# Altium schematic symbol library Schematic Library.SchLib: 24 symbols
Pins are listed as number, name and electrical type; pins without a type are passive.

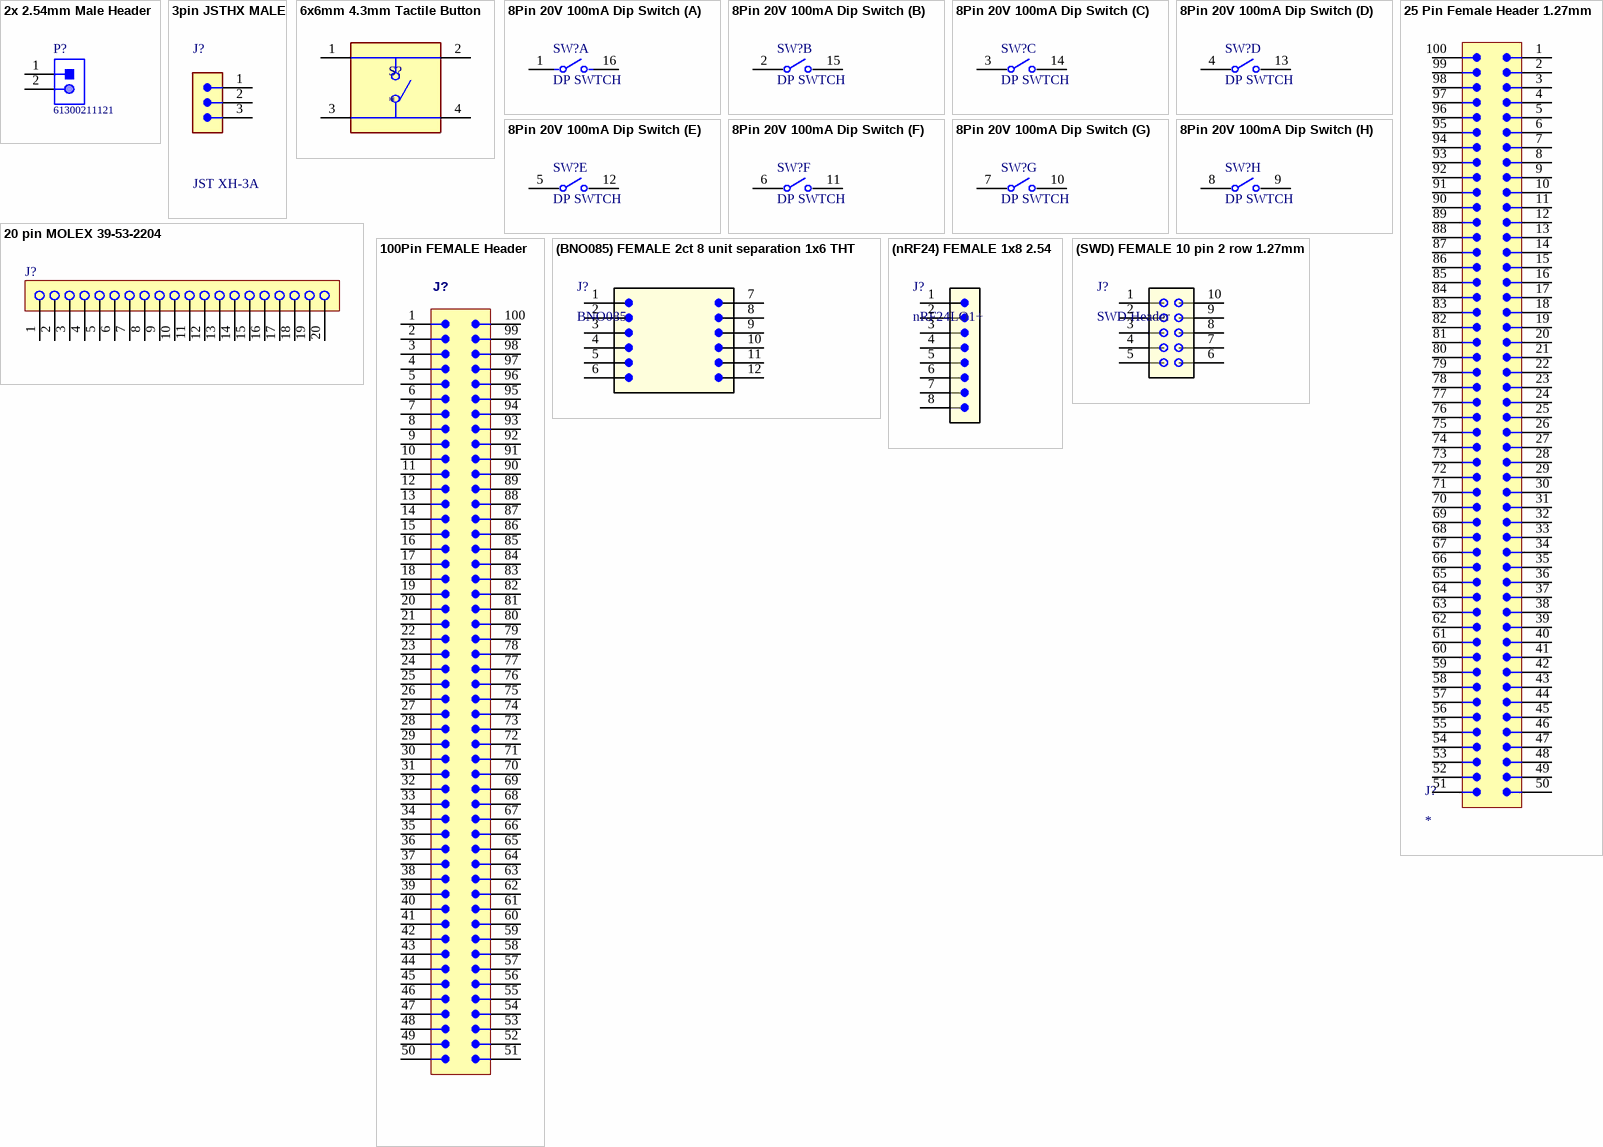
[diagram p0: symbols 2x 2.54mm Male Header to (SWD) FEMALE 10 pin 2 row 1.27mm]

## 2x 2.54mm Male Header
designator P?, comment 61300211121
THT Vertical Pin Header WR-PHD, Pitch 2.54 mm, Single Row, 2 pins; Manufacturer: Wurth Elektronik; Rated Current: 3A; Gender: Male; Withstanding Voltage: 500VAC; Working Voltage: 250VAC; Pitch: 2.54mm; Contact Resistance: 20mOhm; Pin Number: 2; Mounting Technology: THT; Orientation: Vertical; Operating Temperature: -40to105degC; Packaging: Bag; Publisher: WurthElektronik; Datasheet URL: https://katalog.we-online.de/em/datasheet/6130xx11121.pdf; Manufacturer URL: http://www.we-online.de; Row Number: Single; Package Reference: 61300211121; Part Number: 61300211121; Digi-Key_Part_Number_1: 732-5315-ND
footprint 2x 2.54mm MALE header pin (Pin Header, pitch 2.54 mm, THT, Vertical, single row, 2p)
pins: 1, 2

## 3pin JSTHX MALE
designator J?, comment JST XH-3A
CONN HEADER VERT 3POS 2.5MM; Max Current Rating: 3A; Gender: Male; Max Voltage Rating (AC): 250V; Connector Type: Male Pin; Pitch: 0.098inch; Number of Positions: 3; Contact Resistance: 20mR; Termination: Press-Fit; Housing Color: White; Housing Material: Polyamide; Orientation: Straight; Contact Material: Brass; Contact Type: Male Pin; Color: Natural; Packaging: Bulk; Lead Free: Lead Free; Depth: 5.75mm; Number of Rows: 1; Contact Plating: Tin; Length: 9.9mm; Max Operating Temperature: 85°C; Series: XH; Min Operating Temperature: -25°C; Fastening Type: Detent; Mount: Through Hole; Digi-Key_Part_Number_1: 455-2231-ND
footprint FP-B3B-XH-AM_LF_SN-MFG
pins: 1, 2, 3

## 6x6mm 4.3mm Tactile Button
designator S?
6 x 6 mm, 4.3 mm Actuator Height, 160 gf, Black, Long Crimped, Through Hole, SPST, Tactile Switch; MF: CUI Devices; MP: TS02-66-43-BK-160-LCR-D; SnapEDA_Link: https://www.snapeda.com/parts/TS02-66-43-BK-160-LCR-D/CUI+Devices/view-part/?ref=snap; Check_prices: https://www.snapeda.com/parts/TS02-66-43-BK-160-LCR-D/CUI+Devices/view-part/?ref=eda; Availability: In Stock; Value: *; Package: None; Purchase-URL: https://pricing.snapeda.com/search/part/TS02-66-43-BK-160-LCR-D/?ref=eda; Price: None; CUI_purchase_URL: https://www.cuidevices.com/product/switches/tactile-switches/ts02-series?utm_source=snapeda.com&utm_medium=referral&utm_campaign=snapedaBOM; Digi-Key_Part_Number_1: 2223-TS02-66-43-BK-160-LCR-D-ND
footprint BUTTON 6x6x4.3 TACTILE SWITCH
pins: 1, 2, 3, 4

## 8Pin 20V 100mA Dip Switch
designator SW?, comment DP SWTCH
SWITCH SLIDE DIP SPST 100MA 20V; Washable: Yes; Pitch: 0.1inch; Electrical Life: 2000Cycles; Number of Positions: 8; Actuator Type: Slide (Standard); Lead Free: Lead Free; Radiation Hardening: No; Packaging: Tape and Reel; Contact Plating: Gold; Throw Configuration: SPST; Depth: 9.91mm; Min Operating Temperature: -55°C; Termination: Gull Wing; Max Voltage Rating (DC): 20V; Mount: Surface Mount; Package Quantity: 1000; Voltage Rating (DC): 20V; Mechanical Life: 2000Cycles; Orientation: Straight; Max Operating Temperature: 85°C; Max Current Rating: 100mA; Current Rating: 100mA; Contact Material: Copper; Length: 0.858inch; Digi-Key_Part_Number_1: CT3121CT-ND
footprint 8P DP SWTCH
part A pins: 1, 16
part B pins: 2, 15
part C pins: 3, 14
part D pins: 4, 13
part E pins: 5, 12
part F pins: 6, 11
part G pins: 7, 10
part H pins: 8, 9

## 20 pin MOLEX 39-53-2204
designator J?
1.25 mm Pitch FPC Connector, 5.0 mm Mated Height, Right Angle, ZIF, Through Hole, Top Contact, 20 Circuits, -20 to 80 degC, ELV and RoHS Compliant, Tray; Manufacturer: Molex; PCB Locator: No; Voltage (Max): 200V; Pitch - Mating Interface: 1.25mm; Entry Angle: 90degrees Angle; PCB Retention: None; Circuits (Loaded): 20; Material - Plating Termination: Tin-Bismuth; Material - Metal: Phosphor Bronze; Current (Max per Contact): 1A; Mated Height: 5.00mm; Durability (mating cycles max): 30; ComponentLink1Description: Manufacturer URL; ComponentLink2Description: Datasheet; ComponentLink1URL: http://www.molex.com/molex/index.jsp; ComponentLink3Description: Package Specification; Polarized to PCB: No; Packing: Tray; Contact Position: Top; ComponentLink2URL: http://www.molex.com/webdocs/datasheets/pdf/en-us/0039532204_FFC_FPC_CONNECTORS.pdf; Number of Rows: 1; ComponentLink3URL: http://www.molex.com/pdm_docs/sd/039532204_sd.pdf; PackageDescription: 20-Lead FPC Connector, Pitch 1.25 mm; Mounting Technology: Through Hole; Stackable: No; RoHS: TRUE; PartNumber: 39-53-2204; Orientation: Right Angle; PackageVersion: Rev. B, 04/2007; PackageReference: 39-53-2204; Material - Plating Mating: Tin-Bismuth; Digi-Key_Part_Number_1: WM4444-ND
footprint 20Pin Molex 39-53-2204 (FPC Connector, 20-Leads, Right Angle, Pitch 1.25 mm, Mated Height 5.0 mm, Through Hole)
pins: 1, 2, 3, 4, 5, 6, 7, 8, 9, 10, 11, 12, 13, 14, 15, 16, 17, 18, 19, 20

## 25 Pin Female Header 1.27mm
designator J?
Digi-Key_Part_Number_1: 1212-1363-ND
footprint 4x 25 Pin 1.27mm Female Header
pins: 1, 2, 3, 4, 5, 6, 7, 8, 9, 10, 11, 12, 13, 14, 15, 16, 17, 18, 19, 20, 21, 22, 23, 24, 25, 26, 27, 28, 29, 30, 31, 32, 33, 34, 35, 36, 37, 38, 39, 40, 41, 42, 43, 44, 45, 46, 47, 48, 49, 50, 51, 52, 53, 54, 55, 56, 57, 58, 59, 60, 61, 62, 63, 64, 65, 66, 67, 68, 69, 70, 71, 72, 73, 74, 75, 76, 77, 78, 79, 80, 81, 82, 83, 84, 85, 86, 87, 88, 89, 90, 91, 92, 93, 94, 95, 96, 97, 98, 99, 100

## 100Pin FEMALE Header
designator J?
footprint 100PIN FEMALE HEADER 2.54mm
pins: 1, 2, 3, 4, 5, 6, 7, 8, 9, 10, 11, 12, 13, 14, 15, 16, 17, 18, 19, 20, 21, 22, 23, 24, 25, 26, 27, 28, 29, 30, 31, 32, 33, 34, 35, 36, 37, 38, 39, 40, 41, 42, 43, 44, 45, 46, 47, 48, 49, 50, 51, 52, 53, 54, 55, 56, 57, 58, 59, 60, 61, 62, 63, 64, 65, 66, 67, 68, 69, 70, 71, 72, 73, 74, 75, 76, 77, 78, 79, 80, 81, 82, 83, 84, 85, 86, 87, 88, 89, 90, 91, 92, 93, 94, 95, 96, 97, 98, 99, 100

## (BNO085) FEMALE 2ct 8 unit separation 1x6 THT
designator J?, comment BNO085
No Description Available; Mfr_Name: Sullins; Manufacturer_Part_Number: PPTC061LFBN-RC; Copyright: Copyright (C) 2022 Ultra Librarian. All rights reserved.; Digi-Key_Part_Number_1: S7004-ND; RefDes: RefDes; Type: DEV
footprint (BNO085) FEMALE 2ct 8 unit separation 1x6 THT
pins: 1, 2, 3, 4, 5, 6, 7, 8, 9, 10, 11, 12

## (nRF24) FEMALE 1x8 2.54
designator J?, comment nRF24LO1+
No Description Available; Mfr_Name: Sullins; Manufacturer_Part_Number: PPTC081LFBN-RC; Copyright: Copyright (C) 2022 Ultra Librarian. All rights reserved.; Digi-Key_Part_Number_1: S7006-ND; RefDes: RefDes; Type: DEV
footprint (nRF24) FEMALE 1x8 2.54
pins: 1, 2, 3, 4, 5, 6, 7, 8

## (SWD) FEMALE 10 pin 2 row 1.27mm
designator J?, comment SWD Header
No Description Available; Mfr_Name: CNC Tech; Manufacturer_Part_Number: 3220-10-0100-00; Copyright: Copyright (C) 2022 Ultra Librarian. All rights reserved.; Digi-Key_Part_Number_1: 1175-1627-ND; RefDes: RefDes; Type: DEV
footprint (SWD) FEMALE 10 pin 2 row 1.27mm
pins: 1, 2, 3, 4, 5, 6, 7, 8, 9, 10

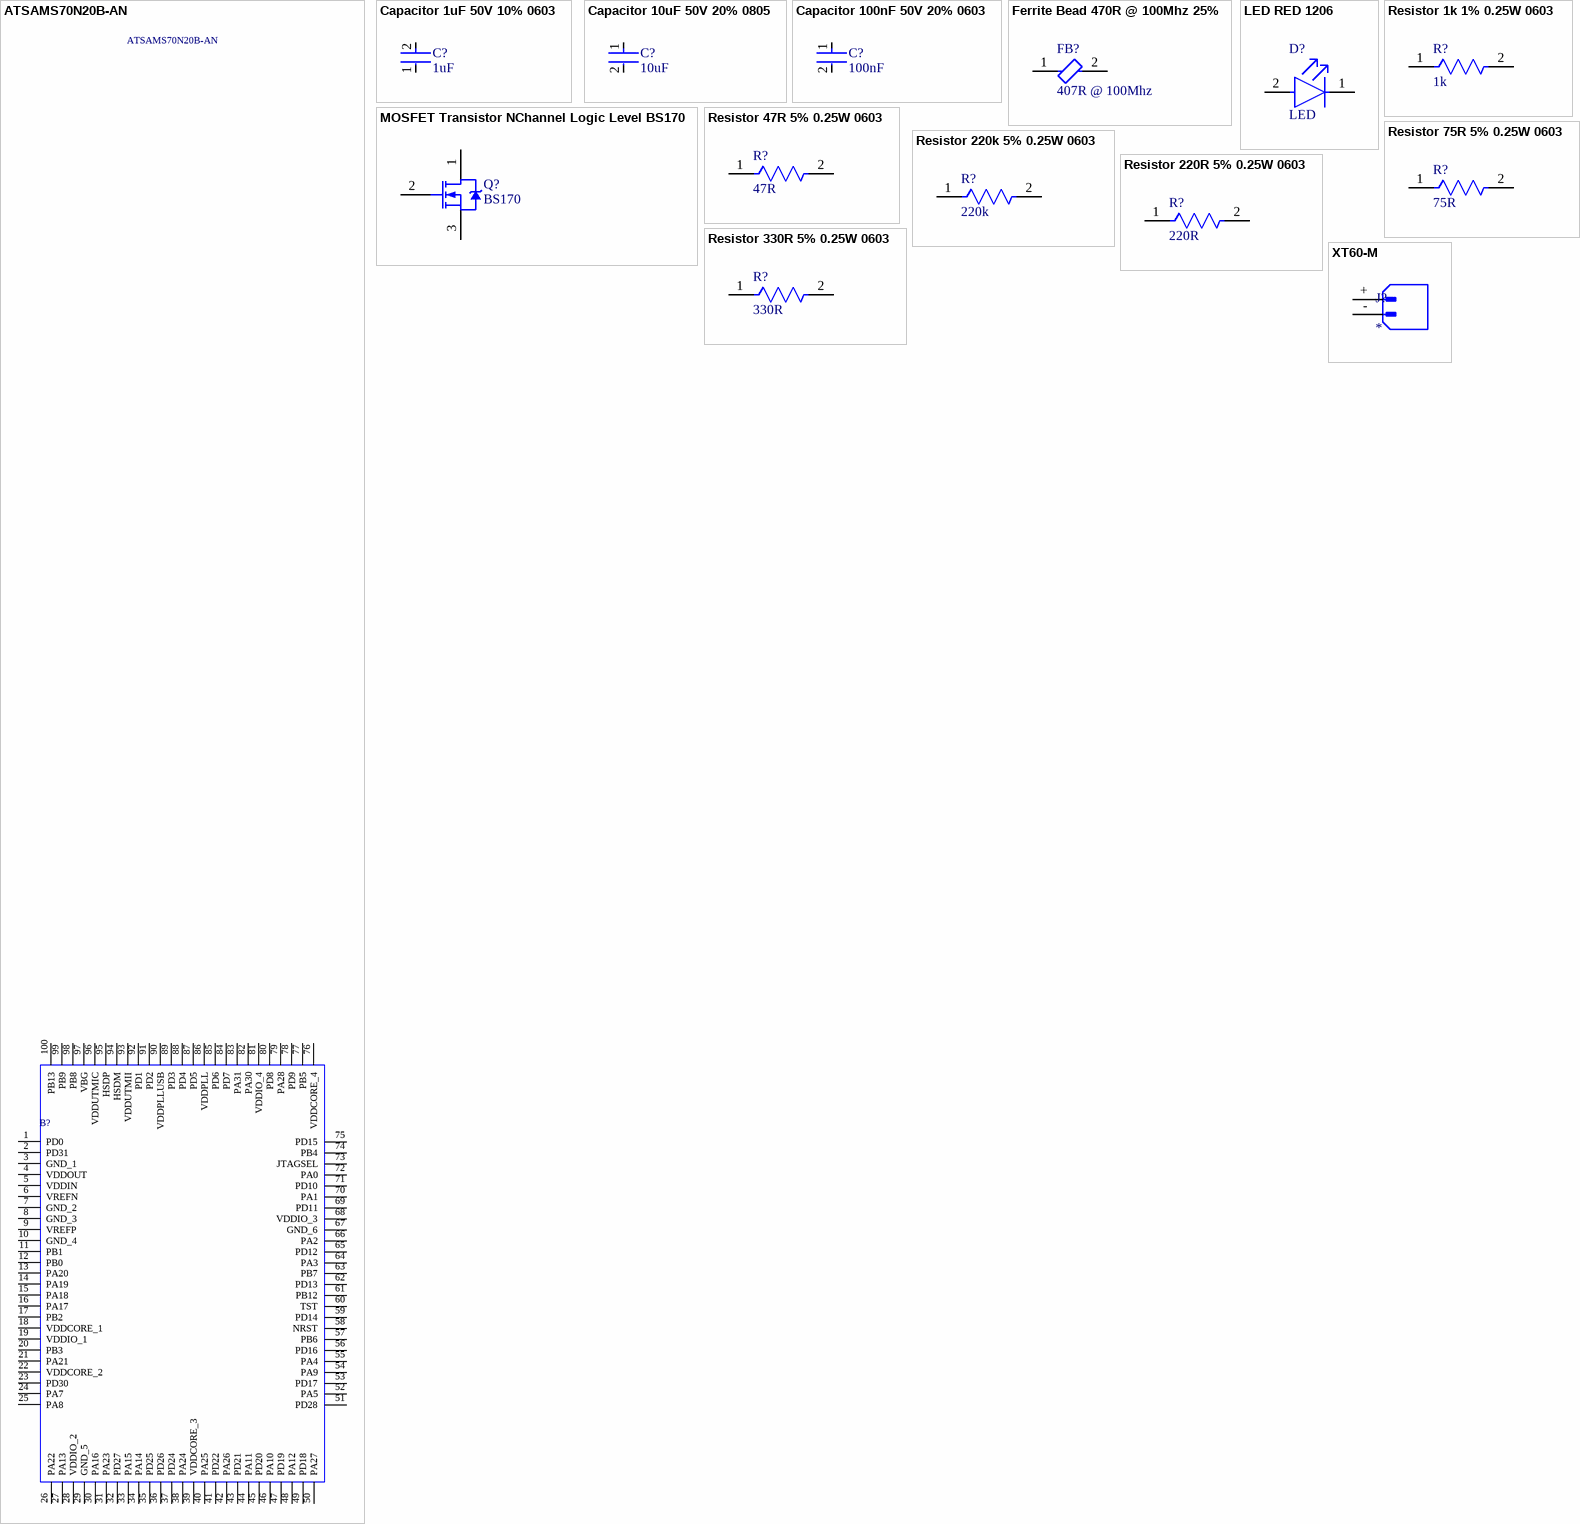
[diagram p1: symbols ATSAMS70N20B-AN to XT60-M]

## ATSAMS70N20B-AN
designator B?
ARM Microcontrollers - MCU CM7,1024kB Flash,384kB SRAM,LQFP100; Manufacturer_Name: Microchip; Geometry.Height: 1.6mm; Mouser Part Number: 556-ATSAMS70N20B-AN; Mouser Price/Stock: https://www.mouser.co.uk/ProductDetail/Microchip-Technology-Atmel/ATSAMS70N20B-AN?qs=rrS6PyfT74f9aEDiDShVYw%3D%3D; Manufacturer_Part_Number: ATSAMS70N20B-AN; Datasheet Link: https://datasheet.datasheetarchive.com/originals/distributors/DKDS41/DSANUWW0026633.pdf; Digi-Key_Part_Number_1: ATSAMS70N20B-AN-ND
footprint QFP50P1600X1600X160-100N
pins: 1 PD0, 2 PD31, 3 GND_1, 4 VDDOUT, 5 VDDIN, 6 VREFN, 7 GND_2, 8 GND_3, 9 VREFP, 10 GND_4, 11 PB1, 12 PB0, 13 PA20, 14 PA19, 15 PA18, 16 PA17, 17 PB2, 18 VDDCORE_1, 19 VDDIO_1, 20 PB3, 21 PA21, 22 VDDCORE_2, 23 PD30, 24 PA7, 25 PA8, 26 PA22, 27 PA13, 28 VDDIO_2, 29 GND_5, 30 PA16, 31 PA23, 32 PD27, 33 PA15, 34 PA14, 35 PD25, 36 PD26, 37 PD24, 38 PA24, 39 VDDCORE_3, 40 PA25, 41 PD22, 42 PA26, 43 PD21, 44 PA11, 45 PD20, 46 PA10, 47 PD19, 48 PA12, 49 PD18, 50 PA27, 51 PD28, 52 PA5, 53 PD17, 54 PA9, 55 PA4, 56 PD16, 57 PB6, 58 NRST, 59 PD14, 60 TST, 61 PB12, 62 PD13, 63 PB7, 64 PA3, 65 PD12, 66 PA2, 67 GND_6, 68 VDDIO_3, 69 PD11, 70 PA1, 71 PD10, 72 PA0, 73 JTAGSEL, 74 PB4, 75 PD15, 76 VDDCORE_4, 77 PB5, 78 PD9, 79 PA28, 80 PD8, 81 VDDIO_4, 82 PA30, 83 PA31, 84 PD7, 85 PD6, 86 VDDPLL, 87 PD5, 88 PD4, 89 PD3, 90 VDDPLLUSB, 91 PD2, 92 PD1, 93 VDDUTMII, 94 HSDM, 95 HSDP, 96 VDDUTMIC, 97 VBG, 98 PB8, 99 PB9, 100 PB13

## Capacitor 1uF 50V 10% 0603
designator C?, comment 1uF
Multilayer Ceramic Capacitors 1μF ±10% 50V X5R SMD 0603; Lead Free: Lead Free; Height: 0.8mm; Mount: Surface Mount; Radiation Hardening: No; Thickness: 0.035inch; Length: 1.6mm; Max Operating Temperature: 85°C; REACH SVHC: No SVHC; Min Operating Temperature: -55°C; Construction: Flat; RoHS Compliant: Yes; Voltage Rating: 50V; Dielectric: X5R; Packaging: Tape and Reel; Termination: SMD/SMT; Voltage Rating (DC): 50V; Case Code (Imperial): 0603; Voltage: 50V; Width: 0.031inch; Weight: 7.1E-05oz; Capacitance: 1uF; Depth: 0.8mm; Case Code (Metric): 1608; Series: C; Case/Package: 0603; Tolerance: 10%; Resistor Type: Ceramic; Number of Pins: 2; Dielectric Material: Ceramic; Package Quantity: 1; Digi-Key_Part_Number_1: 445-7468-1-ND
footprint Capacitor 1uF 50V 10% 0603
pins: 1, 2

## Capacitor 10uF 50V 20% 0805
designator C?, comment 10uF
Chip Multilayer Ceramic Capacitors for General Purpose, 0805, 10uF, X5R, 15%, 20%, 50V; Digi-Key_Part_Number_1: 490-18664-1-ND
footprint Capacitor 10uF 50V 20% 0805
pins: 1, 2

## Capacitor 100nF 50V 20% 0603
designator C?, comment 100nF
Cap Ceramic 100nF 50V X7R ±20% Pad SMD 0603 +125°C T/R; Mount: Surface Mount; Lead Free: Lead Free; Max Operating Temperature: 125°C; Voltage Rating: 50V; Case Code (Imperial): 0603; Capacitance: 100nF; Height: 0.8mm; Length: 1.6mm; Tolerance: 20%; Case Code (Metric): 1608; Thickness: 0.035inch; Depth: 0.8mm; Width: 0.031inch; Package Quantity: 1; Min Operating Temperature: -55°C; Case/Package: 0603; Radiation Hardening: No; Voltage Rating (DC): 50V; Dielectric: X7R; Packaging: Tape and Reel; Digi-Key_Part_Number_1: 1276-1941-1-ND
footprint Capacitor 100nF 50V 20% 0603
pins: 1, 2

## Ferrite Bead 470R @ 100Mhz 25%
designator FB?, comment 407R @ 100Mhz
Chip Ferrite Bead, 0603, 470Ω @ 100MHz, 0.35Ω, 25%, 550mA; Resistance: 350mR; Number of Circuits: 1; Max DC Current: 500mA; Shielding: Unshielded; Impedance: 470R; Weight: 7.1E-05oz; Ratings: AEC-Q200; Contact Plating: Tin; Package Quantity: 4000; Case/Package: 0603; Number of Pins: 2; Core Material: Ferrite; Height: 0.037inch; Lead Free: Lead Free; Max Operating Temperature: 125°C; Width: 0.031inch; Termination: Flat; Case Code (Metric): 1608; Case Code (Imperial): 0603; Tolerance: 25%; Depth: 0.8mm; Min Operating Temperature: -55°C; Max Current Rating: 550mA; Packaging: Tape and Reel; Mount: Surface Mount; Length: 1.6mm; Radiation Hardening: No; Number of Lines: 1; Test Frequency: 100MHz; REACH SVHC: No SVHC; DC Resistance (DCR): 350mR; Digi-Key_Part_Number_1: 490-11025-1-ND
footprint FERRITE BEAD 470R 100Mhz
pins: 1, 2

## LED RED 1206
designator D?, comment LED
LED RED DIFFUSED 1206 SMD; Manufacturer: VCC; Manufacturer Part Number: CMD15-21VRD/TR8; Led Orientation: Top View; Peak Emmision Wavelength: 640nm; Forward Current: 20mA; Power Dissipation: 105mW; Luminous Intensity: 4mcd; Forward Voltage: 2V; Reverse Voltage: 5V; Lead Free: Yes; Device Class L1: Optoelectronics; Package: CMD15-21; Temperature Range High: +85°C; Digikey Description: LED RED DIFFUSED 1206 SMD; Mouser Description: Standard LEDs - SMD RED DIFFUSED; Height: 1.3mm; ComponentLink2Description: Datasheet; ComponentLink2URL: https://www.vcclite.com/wp-content/uploads/wpallimport/files/files/CMD1521SeriesRev1.pdf; Temperature: -40°C to +85°C; Automotive: No; Octopart: https://octopart.com/cmd15-21vrd%2Ftr8-vcc-26668835; Temperature Range Low: -40°C; Device Class L3: unset; Colour: Red; Category: Diode; Device Class L2: LEDs; RoHS: TRUE; Digi-Key_Part_Number_1: L62301CT-ND
footprint LED RED 1206
pins: 1 C, 2 A

## MOSFET Transistor NChannel Logic Level BS170
designator Q?, comment BS170
Small Signal MOSFET, 500 mA, 60 V, N-Channel, 3-Pin TO-92, Bulk Box; Manufacturer: On Semiconductor; VGS Max (V): 20; Configuration: Single; PD Max (W): 0.35; VGS(th) Max (V): 3; ID Max (A): 0.5; V(BR)DSS Min (V): 60; Channel Polarity: N Channel; PackageDescription: 3-Pin Transistor Outline, Body 4.825 x 3.685 mm, Pitch 1.27 mm; Package Type: TO-92; ComponentLink1Description: Manufacturer URL; ComponentLink1URL: http://www.onsemi.com/; DatasheetVersion: Rev. 6; ComponentLink3Description: Package Specification; PartNumber: BS170; ComponentLink2URL: http://www.onsemi.com/pub_link/Collateral/BS170-D.PDF; PackageVersion: Rev. AM; Mounting Technology: Through Hole; PackageReference: TO-92-3-29-11_AM_SL; ComponentLink2Description: Datasheet; ComponentLink3URL: http://www.onsemi.cn/pub_link/Collateral/2N6426-D.PDF; Packing: Bulk Box; Digi-Key_Part_Number_1: 2368-BS170-ND
footprint MOSFET BS170 (TO, 3-Leads, Body Dia 4.7mm, Pitch 1.27mm)
pins: 1 D, 2 G, 3 S

## Resistor 1k 1% 0.25W 0603
designator R?, comment 1k
1kΩ ±1% 0.25W 0603 Anti-Surge Chip Resistor AEC-Q200; Power Rating: 250mW; Resistance: 1kR; Temperature Coefficient: 100ppm/°C; Series: ESR; Max Operating Temperature: 155°C; Case Code (Metric): 1608; Package Quantity: 1; Case/Package: 0603; Size Code: 0603; Case Code (Imperial): 0603; Min Operating Temperature: -55°C; Tolerance: 1%; Max Power Dissipation: 250mW; Number of Terminations: 2; RoHS Compliant: Yes; Lead Free: Lead Free; Packaging: Tape and Reel; Height: 0.022inch; Width: 0.031inch; Features: Automotive AEC-Q200; Resistor Type: Thick Film; Length: 0.063inch; Digi-Key_Part_Number_1: RHM1.00KADCT-ND
footprint RESISTOR 1k 1% 1/4W 0603
pins: 1, 2

## Resistor 47R 5% 0.25W 0603
designator R?, comment 47R
47Ω ±5% 0.25W 0603 Anti-Surge Chip Resistor AEC-Q200; Temperature Coefficient: 200ppm/°C; Max Power Dissipation: 250mW; Min Operating Temperature: -55°C; Max Operating Temperature: 155°C; Case Code (Metric): 1608; Height: 0.022inch; Length: 0.063inch; Case/Package: 0603; Resistor Type: Thick Film; Tolerance: 5%; Features: Automotive AEC-Q200; Resistance: 47R; Packaging: Cut Tape; Package Quantity: 5000; Series: ESR; Number of Terminations: 2; RoHS Compliant: Yes; Case Code (Imperial): 0603; Width: 0.031inch; Digi-Key_Part_Number_1: RHM47DCT-ND
footprint Resistor 47R 5% 1/4W 0603
pins: 1, 2

## Resistor 75R 5% 0.25W 0603
designator R?, comment 75R
75Ω ±5% 0.25W 0603 Anti-Surge Chip Resistor AEC-Q200; Max Power Dissipation: 250mW; Temperature Coefficient: 200ppm/°C; Tolerance: 5%; Packaging: Tape and Reel; Length: 0.063inch; Features: Automotive AEC-Q200; RoHS Compliant: Yes; Case Code (Metric): 1608; Min Operating Temperature: -55°C; Height: 0.022inch; Package Quantity: 5000; Resistor Type: Thick Film; Case Code (Imperial): 0603; Width: 0.031inch; Case/Package: 0603; Series: ESR; Number of Terminations: 2; Resistance: 75R; Max Operating Temperature: 155°C; Digi-Key_Part_Number_1: RHM75DCT-ND
footprint Resistor 75R 5% 1/4W 0603
pins: 1, 2

## Resistor 220k 5% 0.25W 0603
designator R?, comment 220k
220kΩ ±5% 0.25W 0603 Anti-Surge Chip Resistor AEC-Q200; Resistance: 220kR; Max Power Dissipation: 250mW; Temperature Coefficient: 200ppm/°C; Case/Package: 0603; Min Operating Temperature: -55°C; Case Code (Imperial): 0603; Width: 0.031inch; Length: 0.063inch; Packaging: Tape and Reel; Height: 0.022inch; Tolerance: 5%; Features: Automotive AEC-Q200; Max Operating Temperature: 155°C; Case Code (Metric): 1608; Number of Terminations: 2; RoHS Compliant: Yes; Resistor Type: Thick Film; Package Quantity: 5000; Series: ESR; Digi-Key_Part_Number_1: RHM220KDCT-ND
footprint RESISTOR 220k 5% 1/4W 0603
pins: 1, 2

## Resistor 220R 5% 0.25W 0603
designator R?, comment 220R
220Ω ±5% 0.25W 0603 Anti-Surge Chip Resistor AEC-Q200; Max Power Dissipation: 250mW; Temperature Coefficient: 200ppm/°C; Max Operating Temperature: 155°C; Resistor Type: Thick Film; Case/Package: 0603; Features: Automotive AEC-Q200; Case Code (Imperial): 0603; Series: ESR; Number of Terminations: 2; RoHS Compliant: Yes; Case Code (Metric): 1608; Resistance: 220R; Tolerance: 5%; Lead Free: Lead Free; Length: 0.063inch; Height: 0.022inch; Packaging: Tape and Reel; Width: 0.031inch; Package Quantity: 1; Min Operating Temperature: -55°C; Digi-Key_Part_Number_1: RHM220DCT-ND
footprint RESISTOR 220R 5% 1/4W 0603
pins: 1, 2

## Resistor 330R 5% 0.25W 0603
designator R?, comment 330R
330Ω ±5% 0.25W 0603 Anti-Surge Chip Resistor AEC-Q200; Temperature Coefficient: 200ppm/°C; Max Power Dissipation: 250mW; Case/Package: 0603; Case Code (Metric): 1608; RoHS Compliant: Yes; Max Operating Temperature: 155°C; Packaging: Tape and Reel; Resistance: 330R; Features: Automotive AEC-Q200; Width: 0.8mm; Case Code (Imperial): 0603; Length: 1.6mm; Height: 0.45mm; Min Operating Temperature: -55°C; Series: ESR; Tolerance: 5%; Number of Terminations: 2; Digi-Key_Part_Number_1: RHM330DCT-ND
footprint RESISTOR 330R 5% 1/4W 0603
pins: 1, 2

## XT60-M
designator J?
Plug; DC supply; XT60; male; PIN: 2; for cable; soldered; 30A; 500V; MP: XT60-M; MF: AMASS; Package: Package; Availability: Not in stock; SnapEDA_Link: https://www.snapeda.com/parts/XT60-M/AMASS/view-part/?ref=snap; Check_prices: https://www.snapeda.com/parts/XT60-M/AMASS/view-part/?ref=eda; Price: None; Value: *
footprint AMASS_XT60-M
pins: + POS, - NEG